# Altium footprint library ConnRibbon.PcbLib: 1 footprints
Each footprint in its own frame and in the unit in brackets; x right, y up, seen from the top. Pads: shape width x height; smd on the part's side, far side on the other; paste and mask are expansions set on the pad; w line width, h text height; cw(c..) or ccw(c..) is an arc to the next point about the centre after c.
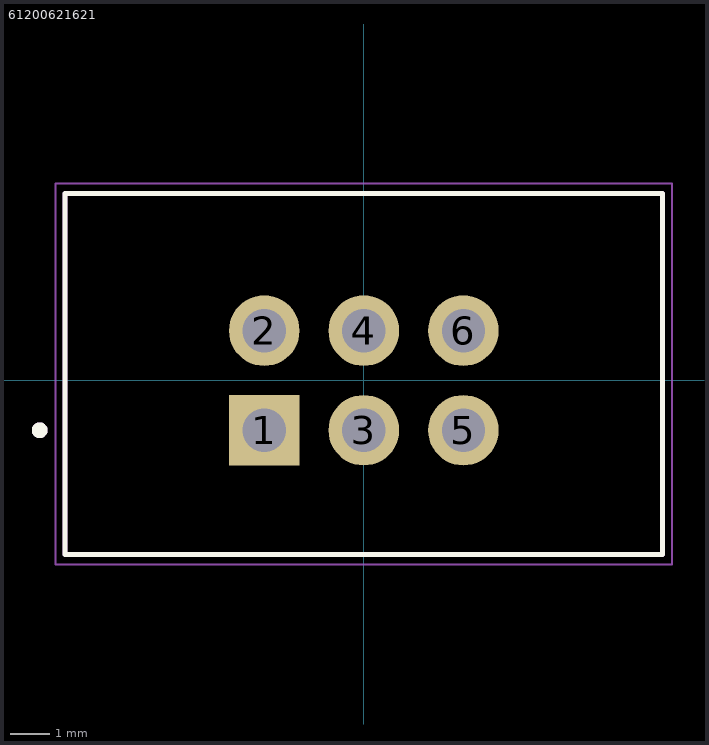
[diagram p0: the footprint, top view; thin cyan lines are the x and y axes]

## 61200621621 [mm] "RIBBON SHROUDED 2X3-2.54"
pads (6):
  rect 1.8x1.8 hole 1.1: 1(-2.54,-1.27)
  round 1.8 hole 1.1: 2(-2.54,1.27) 3(0,-1.27) 4(0,1.27) 5(2.54,-1.27) 6(2.54,1.27)
Top Overlay:
  circle w0.2: c-8.27,-1.27 r0.1
  lines w0.127: -7.62,-4.445 -7.62,4.775 7.62,4.775 7.62,-4.445 -7.62,-4.445
Mechanical 13:
  circle w0.2: c-8.27,-1.27 r0.1
  lines w0.127: -7.62,-4.445 -7.62,4.775 ; -7.62,-4.445 7.62,-4.445 ; -7.62,-4.445 -7.62,4.775 ; -7.62,4.775 7.62,4.775 ; -7.62,4.775 7.62,4.775 ; 7.62,-4.445 7.62,4.775 ; 7.62,-4.445 7.62,4.775
Mechanical 15:
  lines w0.05: -7.87,-4.695 -7.87,5.025 7.87,5.025 7.87,-4.695 -7.87,-4.695
3D body "1761681-1.stp": height 9.2, standoff -2.92, extent -7.62,-4.445 7.62,4.775